# Altium footprint library PcbLib1.PcbLib: 1 footprints
Each footprint in its own frame and in the unit in brackets; x right, y up, seen from the top. Pads: shape width x height; smd on the part's side, far side on the other; paste and mask are expansions set on the pad; w line width, h text height; cw(c..) or ccw(c..) is an arc to the next point about the centre after c.
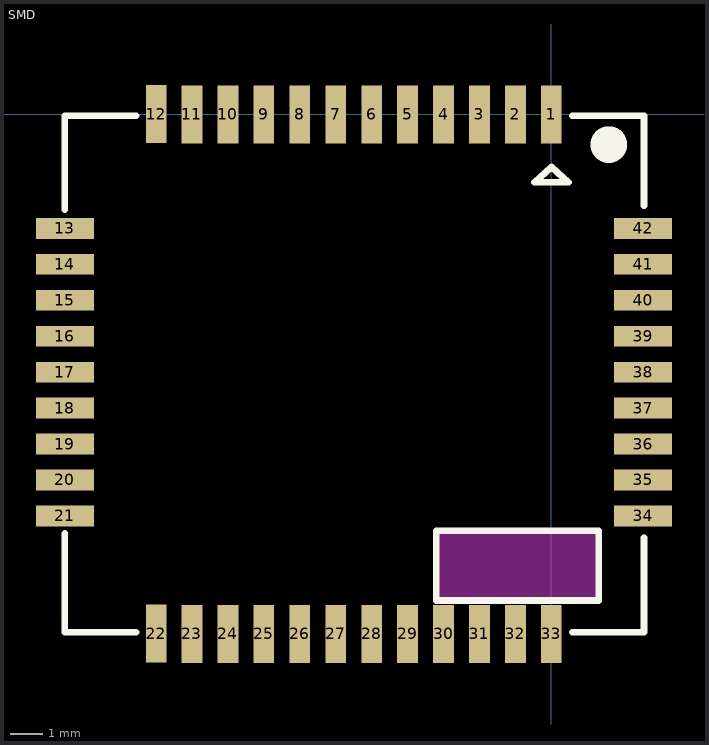
[diagram p0: the footprint, top view; thin cyan lines are the x and y axes]

## SMD [mil]
pads (42):
  rect 25x70 smd: 1(0,0) 2(-43.31,0) 3(-86.61,0) 4(-129.92,0) 5(-173.23,0) 6(-216.54,0) 7(-259.84,0) 8(-303.15,0) 9(-346.46,0) 10(-389.76,0) 11(-433.07,0) 12(-476,0.5) 22(-476,-625.48) 23(-433.07,-625.98) 24(-389.76,-625.98) 25(-346.46,-625.98) 26(-303.15,-625.98) 27(-259.84,-625.98) 28(-216.54,-625.98) 29(-173.23,-625.98) 30(-129.92,-625.98) 31(-86.61,-625.98) 32(-43.31,-625.98) 33(0,-625.98)
  rect 70x25 smd: 13(-586.24,-137.3) 14(-586.24,-180.6) 15(-586.24,-223.91) 16(-586.24,-267.22) 17(-586.24,-310.52) 18(-586.24,-353.83) 19(-586.24,-397.14) 20(-586.24,-440.44) 21(-586.24,-483.75) 34(110.61,-483.75) 35(110.61,-440.44) 36(110.61,-397.14) 37(110.61,-353.83) 38(110.61,-310.52) 39(110.61,-267.22) 40(110.61,-223.91) 41(110.61,-180.6) 42(110.61,-137.3)
Top Overlay:
  circle w40: c69.19,-36.24 r2
  lines w8: -586.31,-505 -586.31,-623.74 -500,-623.74 ; -586.31,-115 -586.31,-1.74 -500,-1.74 ; 25,-623.74 111.69,-623.74 111.69,-510 ; 25,-1.74 111.69,-1.74 111.69,-110 ; -138.81,-585.74 23.19,-585.74 57.19,-585.74 57.19,-501.74 -138.81,-501.74 -138.81,-585.74 ; -20.31,-81.74 20.69,-81.74 0.19,-63.24 -20.31,-81.74
Keep-Out Layer:
  region: 57.38,-500.58 57.38,-585 -137.38,-585 -137.38,-500.58
3D body "SIM800C.STEP": height 89.51, standoff -2.62, extent -581.46,-628.11 111.46,-10